# Altium schematic symbol library radio.SchLib: 2 symbols
Pins are listed as number, name and electrical type; pins without a type are passive.

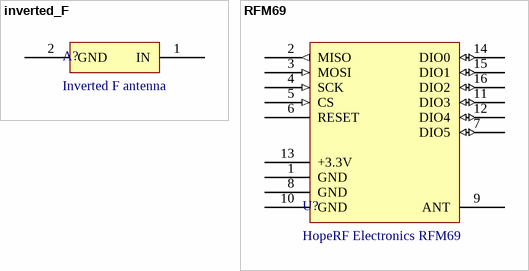
[diagram p0: symbols inverted_F to RFM69]

## inverted_F
designator A?, comment Inverted F antenna  (net tie, no BOM)
footprint Invertef_F-footprint
pins: 1 IN, 2 GND

## RFM69
designator U?, comment HopeRF Electronics RFM69
footprint CAC-200P1600X1600-16N (Chip Array, Concave, 16-Leads, Pitch 2.00mm,  Body 16.00x16.00mm,  IPC Medium Density)
pins: 1 GND, 2 MISO (out), 3 MOSI (in), 4 SCK (in), 5 CS (in), 6 RESET, 7 DIO5 (io), 8 GND, 9 ANT, 10 GND, 11 DIO3 (io), 12 DIO4 (io), 13 +3.3V, 14 DIO0 (io), 15 DIO1 (io), 16 DIO2 (io)